# EAGLE library part IP175G (library MicroSemi_PoE_PSE)
Ethernet 10/100 5-port switch
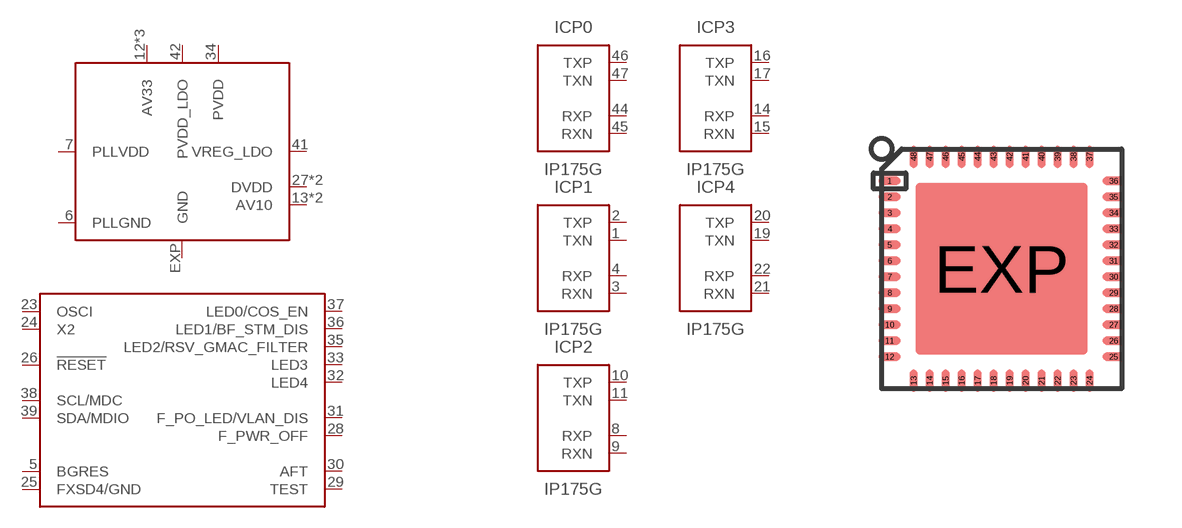
[diagram p3: symbol with the pads of QFN48-6MM; footprint QFN48-6MM]

Designator prefix IC; gates PWR=IP175G-PWR IO=IP175G-MII P0=IP175G-PHYPORT P1=IP175G-PHYPORT P2=IP175G-PHYPORT P3=IP175G-PHYPORT P4=IP175G-PHYPORT

## IP175G  [QFN48-6MM]
1  P1:TXN  out
2  P1:TXP  out
3  P1:RXN  in
4  P1:RXP  in
5  IO:BGRES
6  PWR:PLLGND  pwr
7  PWR:PLLVDD  pwr
8  P2:RXP  in
9  P2:RXN  in
10  P2:TXP  out
11  P2:TXN  out
12  PWR:AV33  pwr
13  PWR:AV10  in
14  P3:RXP  in
15  P3:RXN  in
16  P3:TXP  out
17  P3:TXN  out
18  PWR:AV33  pwr
19  P4:TXN  out
20  P4:TXP  out
21  P4:RXN  in
22  P4:RXP  in
23  IO:OSCI  in
24  IO:X2  out
25  IO:FXSD4/GND  in
26  IO:!RESET  in
27  PWR:DVDD  in
28  IO:F_PWR_OFF  in
29  IO:TEST  in
30  IO:AFT
31  IO:F_PO_LED/VLAN_DIS
32  IO:LED4
33  IO:LED3
34  PWR:PVDD  pwr
35  IO:LED2/RSV_GMAC_FILTER
36  IO:LED1/BF_STM_DIS
37  IO:LED0/COS_EN
38  IO:SCL/MDC
39  IO:SDA/MDIO
40  PWR:DVDD  in
41  PWR:VREG_LDO  out
42  PWR:PVDD_LDO  pwr
43  PWR:AV10  in
44  P0:RXP  in
45  P0:RXN  in
46  P0:TXP  out
47  P0:TXN  out
48  PWR:AV33  pwr
EXP  PWR:GND  pwr

## Footprint QFN48-6MM (pad centres in mm)
48-pin QFN 7 x 7 mm LF48 48 Quad Flat Package No Leads Source: http://v4.cypress.com/cfuploads/img/products/cywusb6934.pdf
smd 0.55 x 0.2: 1 -2.8,2.2; 2 -2.8,1.8; 3 -2.8,1.4; 4 -2.8,1; 5 -2.8,0.6; 6 -2.8,0.2; 7 -2.8,-0.2; 8 -2.8,-0.6; 9 -2.8,-1; 10 -2.8,-1.4; 11 -2.8,-1.8; 12 -2.8,-2.2; 25 2.8,-2.2; 26 2.8,-1.8; 27 2.8,-1.4; 28 2.8,-1; 29 2.8,-0.6; 30 2.8,-0.2; 31 2.8,0.2; 32 2.8,0.6; 33 2.8,1; 34 2.8,1.4; 35 2.8,1.8; 36 2.8,2.2
smd 0.2 x 0.55: 13 -2.2,-2.8; 14 -1.8,-2.8; 15 -1.4,-2.8; 16 -1,-2.8; 17 -0.6,-2.8; 18 -0.2,-2.8; 19 0.2,-2.8; 20 0.6,-2.8; 21 1,-2.8; 22 1.4,-2.8; 23 1.8,-2.8; 24 2.2,-2.8; 37 2.2,2.8; 38 1.8,2.8; 39 1.4,2.8; 40 1,2.8; 41 0.6,2.8; 42 0.2,2.8; 43 -0.2,2.8; 44 -0.6,2.8; 45 -1,2.8; 46 -1.4,2.8; 47 -1.8,2.8; 48 -2.2,2.8
smd 4.3 x 4.3: EXP 0,0